# Altium footprint library 10_pin_Box_Header_Pcb.PcbLib: 1 footprints
Each footprint in its own frame and in the unit in brackets; x right, y up, seen from the top. Pads: shape width x height; smd on the part's side, far side on the other; paste and mask are expansions set on the pad; w line width, h text height; cw(c..) or ccw(c..) is an arc to the next point about the centre after c.
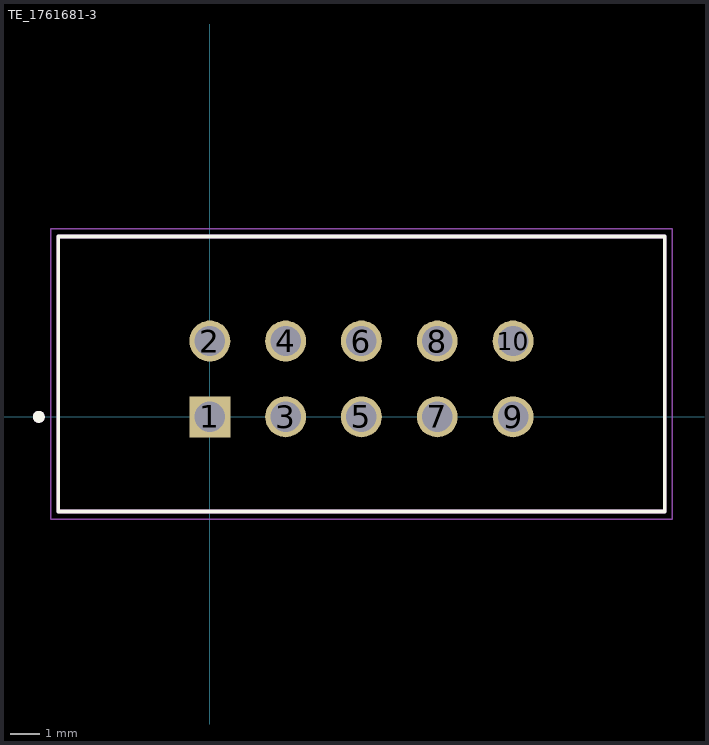
[diagram p0: the footprint, top view; thin cyan lines are the x and y axes]

## TE_1761681-3 [mm]
pads (10):
  rect 1.37x1.37 hole 1.02: 1(0,0)
  round 1.37 hole 1.02: 2(0,2.54) 3(2.54,0) 4(2.54,2.54) 5(5.08,0) 6(5.08,2.54) 7(7.62,0) 8(7.62,2.54) 9(10.16,0) 10(10.16,2.54)
Top Overlay:
  circle w0.2: c-5.73,0 r0.1
  lines w0.127: -5.08,-3.175 -5.08,6.045 15.24,6.045 15.24,-3.175 -5.08,-3.175
Mechanical 13:
  circle w0.2: c-5.73,0 r0.1
  lines w0.127: -5.08,-3.175 -5.08,6.045 ; -5.08,-3.175 15.24,-3.175 ; -5.08,-3.175 -5.08,6.045 ; -5.08,6.045 15.24,6.045 ; -5.08,6.045 15.24,6.045 ; 15.24,-3.175 15.24,6.045 ; 15.24,-3.175 15.24,6.045
Mechanical 15:
  lines w0.05: -5.33,-3.425 -5.33,6.295 15.49,6.295 15.49,-3.425 -5.33,-3.425